# Altium footprint library 219-3LPSTR.PcbLib: 2 footprints
Each footprint in its own frame and in the unit in brackets; x right, y up, seen from the top. Pads: shape width x height; smd on the part's side, far side on the other; paste and mask are expansions set on the pad; w line width, h text height; cw(c..) or ccw(c..) is an arc to the next point about the centre after c.
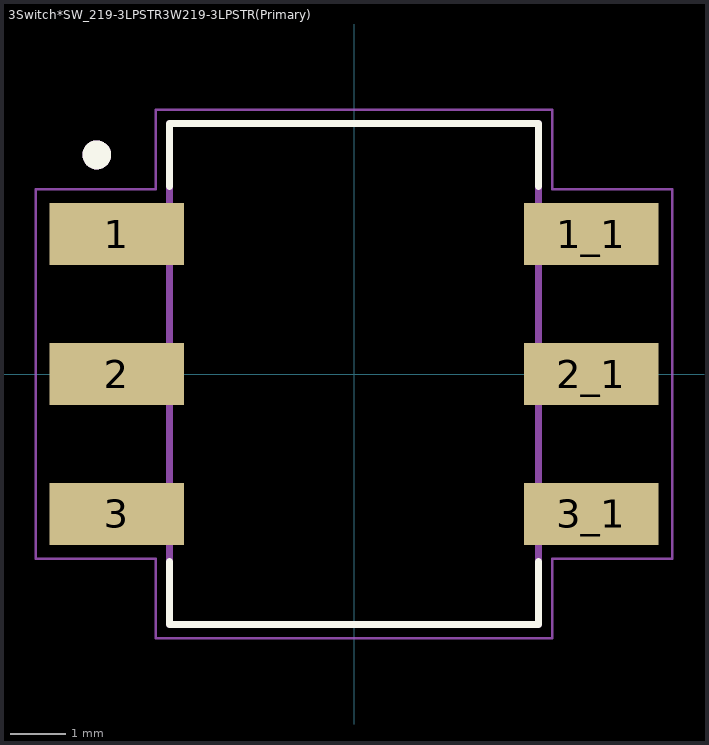
[diagram p0: the footprints below, top view; thin cyan lines are the x and y axes]

## 3Switch*SW_219-3LPSTR3W219-3LPSTR(Primary) [mm]
pads (6):
  rect 2.44x1.13 smd: 1(-4.305,2.54) 1_1(4.305,2.54) 2(-4.305,0) 2_1(4.305,0) 3(-4.305,-2.54) 3_1(4.305,-2.54)
Top Overlay:
  circle w0.3: c-4.669,3.977 r0.112
  lines w0.127: -3.35,-3.405 -3.35,-4.545 3.35,-4.545 3.35,-3.405 ; -3.35,3.4 -3.35,4.545 3.35,4.545 3.35,3.4
Mechanical 4:
  circle w0.3: c-4.669,3.977 r0.112
  circle w0.3: c-4.669,3.977 r0.112
  lines w0.127: -3.35,-4.545 3.35,-4.545 ; -3.35,-4.545 -3.35,4.545 ; -3.35,-4.545 3.35,-4.545 ; -3.35,-4.545 -3.35,4.545 ; -3.35,4.545 3.35,4.545 ; -3.35,4.545 3.35,4.545 ; 3.35,-4.545 3.35,4.545 ; 3.35,-4.545 3.35,4.545
Mechanical 16:
  lines w0.05: -5.775,-3.355 -3.6,-3.355 -3.6,-4.795 3.6,-4.795 3.6,-3.355 5.775,-3.355 5.775,3.355 3.6,3.355 3.6,4.795 -3.6,4.795 -3.6,3.355 -5.775,3.355 -5.775,-3.355

## PCBComponent_1 [mil]